# Altium schematic symbol library Extracomp2.SchLib: 1 symbol
Pins are listed as number, name and electrical type; pins without a type are passive.

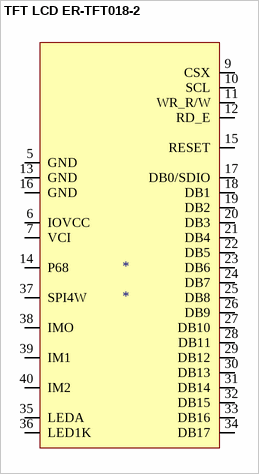
[diagram p0: symbol TFT LCD ER-TFT018-2]

## TFT LCD ER-TFT018-2
designator *
footprint LCD TFT Display
pins: 5 GND (power), 6 IOVCC (power), 7 VCI (power), 9 CSX (io), 10 SCL (io), 11 WR_R/W (io), 12 RD_E (io), 13 GND (power), 14 P68 (power), 15 RESET (io), 16 GND (power), 17 DB0/SDIO (io), 18 DB1 (io), 19 DB2 (io), 20 DB3 (io), 21 DB4 (io), 22 DB5 (io), 23 DB6 (io), 24 DB7 (io), 25 DB8 (io), 26 DB9 (io), 27 DB10 (io), 28 DB11 (io), 29 DB12 (io), 30 DB13 (io), 31 DB14 (io), 32 DB15 (io), 33 DB16 (io), 34 DB17 (io), 35 LEDA (power), 36 LED1K (power), 37 SPI4W (power), 38 IMO (power), 39 IM1 (power), 40 IM2 (power)